# Altium footprint library SM_L_4.9MMX4.9MMX4MM.PcbLib: 1 footprints
Each footprint in its own frame and in the unit in brackets; x right, y up, seen from the top. Pads: shape width x height; smd on the part's side, far side on the other; paste and mask are expansions set on the pad; w line width, h text height; cw(c..) or ccw(c..) is an arc to the next point about the centre after c.
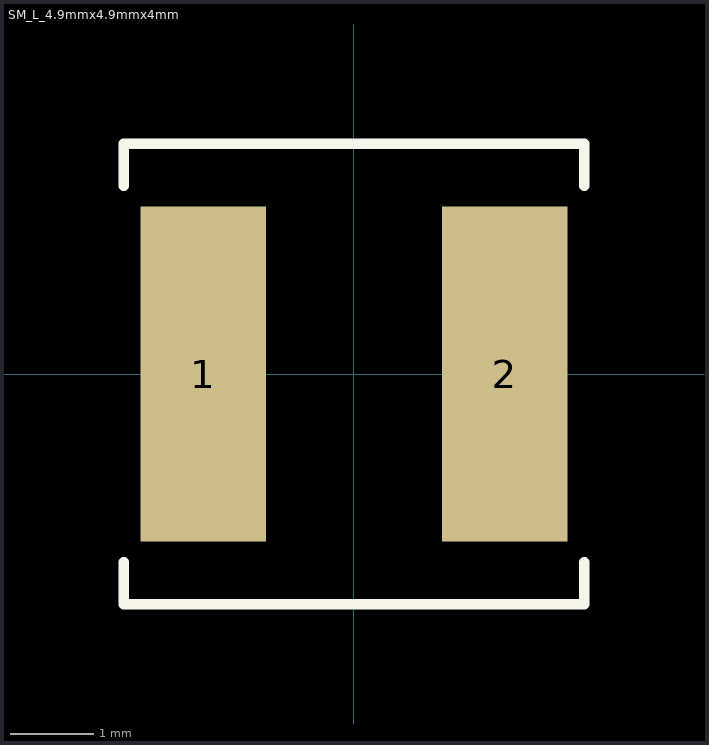
[diagram p0: the footprint, top view; thin cyan lines are the x and y axes]

## SM_L_4.9mmx4.9mmx4mm [mm] "Inductor 4.9mm x 4.9mm x 4.0mm"
height 4
pads (2):
  rect 1.5x4 smd mask+0.076: 1(-1.8,0) 2(1.8,0)
Top Overlay:
  lines w0.127: -2.75,-2.25 -2.75,-2.75 2.75,-2.75 2.75,-2.25 ; -2.75,2.25 -2.75,2.75 2.75,2.75 2.75,2.25
3D body: height 4, standoff 0, extent -2.55,-2.55 2.55,2.55